# Altium schematic symbol library DP_1A_3C.Schlib: 1 symbol
Pins are listed as number, name and electrical type; pins without a type are passive.

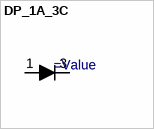
[diagram p0: symbol DP_1A_3C]

## DP_1A_3C
designator D?
pins: 1 A, 3 K